# EAGLE library part DCDC_VIJXX (library wheat)
DC/DC CONVERTER, HALF BRICK VICOR VI-JXX
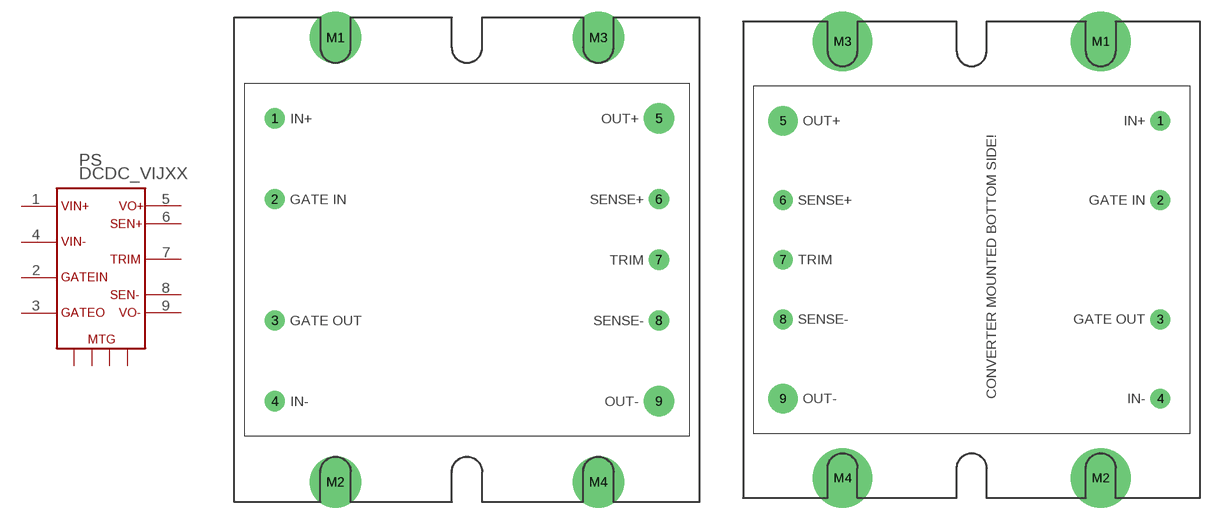
[diagram p85: symbol with the pads of DCDC_VIJXX; footprints DCDC_VIJXX, DCDC_VIJXX_BS]

Designator prefix PS

## DCDC_VIJXX_TOP  [DCDC_VIJXX]
1  VIN+  pas
2  GATEIN  pas
3  GATEO  pas
4  VIN-  pas
5  OUT+  pas
6  SEN+  pas
7  TRIM  pas
8  SEN-  pas
9  OUT-  pas
M1  MH1  pas
M2  MH2  pas
M3  MH3  pas
M4  MH4  pas

## DCDC_VIJXX_BOTTOM  [DCDC_VIJXX_BS]
Pads as for DCDC_VIJXX

## Footprint DCDC_VIJXX (pad centres in mm)
DC/DC CONVERTER, HALF BROCK VICOR VI-JXX
drill 1.422 pad 2.54: 1 -24.13,17.78; 2 -24.13,7.62; 3 -24.13,-7.62; 4 -24.13,-17.78; 6 24.13,7.62; 7 24.13,0; 8 24.13,-7.62
drill 2.54 pad 3.81: 5 24.13,17.78; 9 24.13,-17.78
drill 3.81 pad 6.452: M1 -16.51,27.94; M2 -16.51,-27.94; M3 16.51,27.94; M4 16.51,-27.94

## Footprint DCDC_VIJXX_BS (pad centres in mm)
DC/DC CONVERTER, HALF BRICK, MOUNTED BACKSIDE VICOR VI-JXX
drill 1.422 pad 2.54: 1 24.13,17.78; 2 24.13,7.62; 3 24.13,-7.62; 4 24.13,-17.78; 6 -24.13,7.62; 7 -24.13,0; 8 -24.13,-7.62
drill 2.54 pad 3.81: 5 -24.13,17.78; 9 -24.13,-17.78
drill 3.81 pad 7.62: M1 16.51,27.94; M2 16.51,-27.94; M3 -16.51,27.94; M4 -16.51,-27.94